# Altium footprint library MC.PcbLib: 22 footprints (part 1 of 2)
Each footprint in its own frame and in the unit in brackets; x right, y up, seen from the top. Pads: shape width x height; smd on the part's side, far side on the other; paste and mask are expansions set on the pad; w line width, h text height; cw(c..) or ccw(c..) is an arc to the next point about the centre after c.
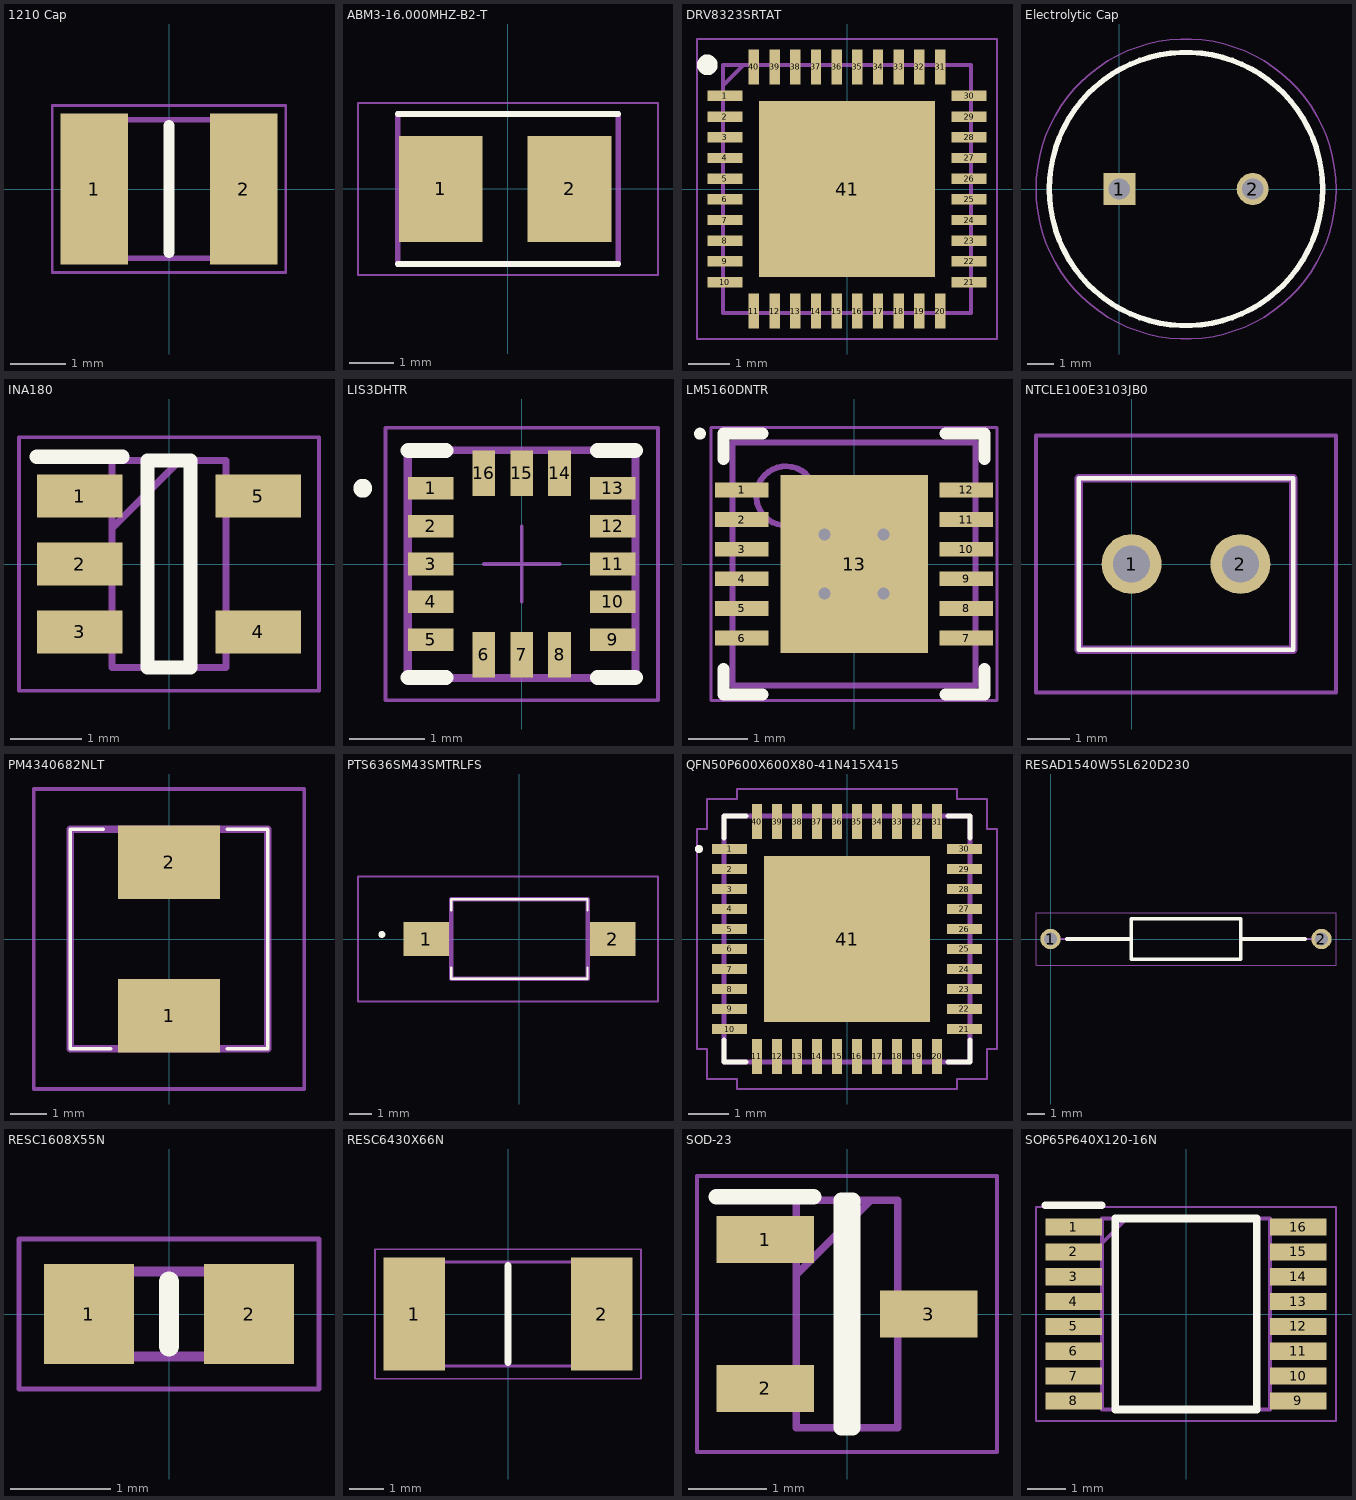
[diagram p0: the footprints below, top view; thin cyan lines are the x and y axes]

## 1210 Cap [mm]
pads (2):
  rect 1.22x2.72 smd: 1(-1.35,0) 2(1.35,0)
Top Overlay:
  lines w0.2: 0,-1.15 0,1.15
Mechanical 13:
  lines w0.1: -1.6,-1.25 -1.6,1.25 1.6,1.25 1.6,-1.25 -1.6,-1.25
Mechanical 15:
  lines w0.05: -2.11,-1.51 -2.11,1.51 2.11,1.51 2.11,-1.51 -2.11,-1.51
3D body "HMK325C7475KN-TE.stp": height 2.1, standoff 0, extent -1.6,-1.25 1.6,1.25

## ABM3-16.000MHZ-B2-T [mm]
pads (2):
  rect 1.9x2.4 smd: 1(-1.524,0) 2(1.397,0)
Top Overlay:
  lines w0.127: -2.5,-1.7 2.5,-1.7 ; -2.5,1.7 2.5,1.7
Mechanical 13:
  lines w0.127: -2.5,-1.7 -2.5,1.7 ; 2.5,-1.7 2.5,1.7
Mechanical 15:
  lines w0.05: -3.4,-1.95 -3.4,1.95 3.4,1.95 3.4,-1.95 -3.4,-1.95
3D body "ABM3-16.000MHZ-B2-T.STEP": height 1.3, standoff 0, extent -2.502,-1.651 2.502,1.651

## DRV8323SRTAT [mm]
pads (41):
  rect 0.85x0.25 smd: 1(-2.95,2.25) 2(-2.95,1.75) 3(-2.95,1.25) 4(-2.95,0.75) 5(-2.95,0.25) 6(-2.95,-0.25) 7(-2.95,-0.75) 8(-2.95,-1.25) 9(-2.95,-1.75) 10(-2.95,-2.25) 21(2.95,-2.25) 22(2.95,-1.75) 23(2.95,-1.25) 24(2.95,-0.75) 25(2.95,-0.25) 26(2.95,0.25) 27(2.95,0.75) 28(2.95,1.25) 29(2.95,1.75) 30(2.95,2.25)
  rect 0.25x0.85 smd: 11(-2.25,-2.95) 12(-1.75,-2.95) 13(-1.25,-2.95) 14(-0.75,-2.95) 15(-0.25,-2.95) 16(0.25,-2.95) 17(0.75,-2.95) 18(1.25,-2.95) 19(1.75,-2.95) 20(2.25,-2.95) 31(2.25,2.95) 32(1.75,2.95) 33(1.25,2.95) 34(0.75,2.95) 35(0.25,2.95) 36(-0.25,2.95) 37(-0.75,2.95) 38(-1.25,2.95) 39(-1.75,2.95) 40(-2.25,2.95)
  rect 4.25x4.25 smd: 41(0,0)
Top Overlay:
  circle w0.25: c-3.375,3 r0.125
Mechanical 13:
  lines w0.1: -3,2.5 -2.5,3 ; -3,-3 -3,3 3,3 3,-3 -3,-3
Mechanical 15:
  lines w0.05: -3.625,-3.625 -3.625,3.625 3.625,3.625 3.625,-3.625 -3.625,-3.625
3D body "DRV8323SRTAT.stp": height 0.8, standoff 0, extent -3.05,-3.05 3.05,3.05

## Electrolytic Cap [mm]
pads (2):
  rect 1.2x1.2 hole 0.8: 1(0,0)
  round 1.2 hole 0.8: 2(5,0)
Top Overlay:
  circle w0.2: c2.5,0 r5.125
Mechanical 13:
  circle w0.1: c2.5,0 r5.125
Mechanical 15:
  circle w0.05: c2.5,0 r5.625
3D body "100ZLH100MEFC10X20.stp": height 22, standoff -10, extent -2.75,-5.247 7.75,5.247

## INA180 [mm]
pads (5):
  rect 1.2x0.6 smd: 1(-1.25,0.95) 2(-1.25,0) 3(-1.25,-0.95) 4(1.25,-0.95) 5(1.25,0.95)
Top Overlay:
  lines w0.2: -1.85,1.5 -0.65,1.5 ; -0.3,-1.45 -0.3,1.45 0.3,1.45 0.3,-1.45 -0.3,-1.45
Mechanical 13:
  lines w0.1: -0.8,0.5 0.15,1.45 ; -0.8,-1.45 -0.8,1.45 0.8,1.45 0.8,-1.45 -0.8,-1.45
Mechanical 15:
  lines w0.05: -2.1,-1.775 -2.1,1.775 2.1,1.775 2.1,-1.775 -2.1,-1.775
3D body "INA180A3IDBVR.stp": height 1.45, standoff 0, extent -1.4,-1.45 1.4,1.45

## LIS3DHTR [mm]
pads (16):
  rect 0.6x0.3 smd: 1(-1.2,1) 2(-1.2,0.5) 3(-1.2,0) 4(-1.2,-0.5) 5(-1.2,-1) 9(1.2,-1) 10(1.2,-0.5) 11(1.2,0) 12(1.2,0.5) 13(1.2,1)
  rect 0.3x0.6 smd: 6(-0.5,-1.2) 7(0,-1.2) 8(0.5,-1.2) 14(0.5,1.2) 15(0,1.2) 16(-0.5,1.2)
Top Overlay:
  lines w0.125: -2.163,1.001 cw(c-2.101,1.001) -2.038,1.001 cw(c-2.101,1.001) -2.163,1.001
  lines w0.2: -1.5,-1.5 -1,-1.5 ; -1.5,1.5 -1,1.5 ; 1,-1.5 1.5,-1.5 ; 1,1.5 1.5,1.5
Mechanical 13:
  lines w0.1: -1.5,-1.5 -1.5,1.5 1.5,1.5 1.5,-1.5 -1.5,-1.5
Mechanical 15:
  lines w0.001: -1.55,-1.55 -1.55,1.55 1.55,1.55 1.55,-1.55 -1.55,-1.55
  lines w0.05: -0.5,0 0.5,0 ; 0,-0.5 0,0.5 ; -1.8,-1.8 -1.8,1.8 1.8,1.8 1.8,-1.8 -1.8,-1.8
3D body "LIS3DHTR.stp": height 1.1, standoff 0, extent -1.5,-1.5 1.5,1.5

## LM5160DNTR [mm] "SON, 12-Leads, Body 4.00x4.00mm, Pitch 0.50mm, Thermal Pad 3.00x2.49mm, IPC Medium Density"
height 1
pads (13):
  rect 0.9x0.25 smd: 1(-1.895,1.25) 2(-1.895,0.75) 3(-1.895,0.25) 4(-1.895,-0.25) 5(-1.895,-0.75) 6(-1.895,-1.25) 7(1.895,-1.25) 8(1.895,-0.75) 9(1.895,-0.25) 10(1.895,0.25) 11(1.895,0.75) 12(1.895,1.25)
  rect 2.49x3 smd paste-1.245: 13(0,0)
via -0.5,-0.5 diameter 0.5 hole 0.2
via -0.5,0.5 diameter 0.5 hole 0.2
via 0.5,0.5 diameter 0.5 hole 0.2
via 0.5,-0.5 diameter 0.5 hole 0.2
Top Overlay:
  circle w0.1: c-2.6,2.2 r0.05
  lines w0.2: -2.2,-1.775 -2.2,-2.2 -1.545,-2.2 ; -2.2,1.775 -2.2,2.2 -1.545,2.2 ; 1.545,-2.2 2.2,-2.2 2.2,-1.775 ; 1.545,2.2 2.2,2.2 2.2,1.775
Top Paste:
  rectangle: -1.15,0.1 -0.1,1.4
  rectangle: -1.15,-1.4 -0.1,-0.1
  rectangle: 0.1,0.1 1.15,1.4
  rectangle: 0.1,-1.4 1.15,-0.1
Mechanical 13:
  circle w0.1: c-1.15,1.15 r0.5
  lines w0.1: -2.05,-2.05 -2.05,2.05 2.05,2.05 2.05,-2.05 -2.05,-2.05
Mechanical 15:
  lines w0.05: -2.413,-2.3 -2.413,2.3 2.413,2.3 2.413,-2.3 -2.413,-2.3
  lines w0.1: -0.5,0 0.5,0 ; 0,-0.5 0,0.5
3D body "LM5160DNTR.step": height 1, standoff 0, extent -2.13,-2.05 2.13,2.05

## NTCLE100E3103JB0 [mil]
pads (2):
  round 55 hole 33.86: 1(0,0) 2(100,0)
Top Overlay:
  lines w3.94: -48.43,-78.74 148.43,-78.74 148.43,78.74 -48.43,78.74 -48.43,-78.74
Mechanical 13:
  lines w7.87: -48.43,-78.74 148.43,-78.74 148.43,78.74 -48.43,78.74 -48.43,-78.74
Mechanical 15:
  lines w3.94: -87.8,-118.11 187.8,-118.11 187.8,118.11 -87.8,118.11 -87.8,-118.11
3D body "NTCLE100E3103JB0.stp": height 397.64, standoff -196.85, extent -48.43,-78.74 148.43,78.74

## PM4340682NLT [mm]
pads (2):
  rect 2.8x2 smd: 1(0,-2.1) 2(0,2.1)
Top Overlay:
  lines w0.1: -1.8,3 -2.7,3 -2.7,-3 -1.6,-3 ; 1.6,-3 2.7,-3 2.7,3 1.6,3
Mechanical 13:
  lines w0.2: -2.7,-3 2.7,-3 2.7,3 -2.7,3 -2.7,-3
Mechanical 15:
  lines w0.1: -3.7,-4.1 3.7,-4.1 3.7,4.1 -3.7,4.1 -3.7,-4.1
3D body "PM4340.682NLT.stp": height 2.1, standoff 0, extent -2.7,-3 2.7,3

## PTS636SM43SMTRLFS [mm]
pads (2):
  rect 2x1.5 smd: 1(-4.1,0) 2(4.1,0)
Top Overlay:
  lines w0.1: -3,-1.75 3,-1.75 ; -3,-1.75 3,-1.75 ; -3,-1.75 -3,-1.25 -3,-1.75 ; -3,1.75 3,1.75 ; -3,1.75 3,1.75 ; -3,1.75 -3,1.25 -3,1.75 ; 3,-1.75 3,-1.25 3,-1.75 ; 3,1.75 3,1.25 3,1.75
  lines w0.2: -6.1,0.2 ccw(c-6.05,0.2) -6,0.2 ; -6.1,0.2 cw(c-6.05,0.2) -6,0.2 ; -6.1,0.2 ccw(c-6.05,0.2) -6,0.2
Mechanical 13:
  lines w0.2: -3,-1.75 -3,1.75 3,1.75 3,-1.75 -3,-1.75
Mechanical 15:
  lines w0.1: -7.1,-2.75 -7.1,2.75 6.1,2.75 6.1,-2.75 -7.1,-2.75

## QFN50P600X600X80-41N415X415 [mm]
pads (41):
  rrect14% 0.88x0.26 smd: 1(-2.935,2.25) 2(-2.935,1.75) 3(-2.935,1.25) 4(-2.935,0.75) 5(-2.935,0.25) 6(-2.935,-0.25) 7(-2.935,-0.75) 8(-2.935,-1.25) 9(-2.935,-1.75) 10(-2.935,-2.25) 21(2.935,-2.25) 22(2.935,-1.75) 23(2.935,-1.25) 24(2.935,-0.75) 25(2.935,-0.25) 26(2.935,0.25) 27(2.935,0.75) 28(2.935,1.25) 29(2.935,1.75) 30(2.935,2.25)
  rrect14% 0.26x0.88 smd: 11(-2.25,-2.935) 12(-1.75,-2.935) 13(-1.25,-2.935) 14(-0.75,-2.935) 15(-0.25,-2.935) 16(0.25,-2.935) 17(0.75,-2.935) 18(1.25,-2.935) 19(1.75,-2.935) 20(2.25,-2.935) 31(2.25,2.935) 32(1.75,2.935) 33(1.25,2.935) 34(0.75,2.935) 35(0.25,2.935) 36(-0.25,2.935) 37(-0.75,2.935) 38(-1.25,2.935) 39(-1.75,2.935) 40(-2.25,2.935)
  rect 4.15x4.15 smd: 41(0,0)
Top Overlay:
  circle w0.1: c-3.7,2.25 r0.05
  lines w0.127: -3.08,-2.526 -3.08,-3.08 -2.526,-3.08 ; -3.08,2.526 -3.08,3.08 -2.526,3.08 ; 2.526,-3.08 3.08,-3.08 3.08,-2.526 ; 2.526,3.08 3.08,3.08 3.08,2.526
Mechanical 13:
  lines w0.127: -3.08,-3.08 -3.08,3.08 3.08,3.08 3.08,-3.08 -3.08,-3.08
Mechanical 15:
  lines w0.05: -3.75,-2.75 -3.75,2.75 -3.5,2.75 -3.5,3.5 -2.75,3.5 -2.75,3.75 2.75,3.75 2.75,3.5 3.5,3.5 3.5,2.75 3.75,2.75 3.75,-2.75 3.5,-2.75 3.5,-3.5 2.75,-3.5 2.75,-3.75 -2.75,-3.75 -2.75,-3.5 -3.5,-3.5 -3.5,-2.75 -3.75,-2.75

## RESAD1540W55L620D230 [mm]
pads (2):
  round 1.15 hole 0.75: 1(0,0) 2(15.4,0)
Top Overlay:
  lines w0.2: 0.925,0 4.6,0 ; 10.8,0 14.475,0 ; 4.6,-1.15 4.6,1.15 10.8,1.15 10.8,-1.15 4.6,-1.15
Mechanical 13:
  lines w0.1: 0,0 4.6,0 ; 10.8,0 15.4,0 ; 4.6,-1.15 4.6,1.15 10.8,1.15 10.8,-1.15 4.6,-1.15
Mechanical 15:
  lines w0.05: -0.825,-1.5 -0.825,1.5 16.225,1.5 16.225,-1.5 -0.825,-1.5
3D body "LR1F2K2.stp": height 2.35, standoff 0.05, extent 2.347,-1.15 13.147,1.15

## RESC1608X55N [mm]
pads (2):
  rect 0.9x1 smd: 1(-0.8,0) 2(0.8,0)
Top Overlay:
  lines w0.2: 0,-0.325 0,0.325
Mechanical 13:
  lines w0.1: -0.8,-0.425 -0.8,0.425 0.8,0.425 0.8,-0.425 -0.8,-0.425
Mechanical 15:
  lines w0.05: -1.5,-0.75 -1.5,0.75 1.5,0.75 1.5,-0.75 -1.5,-0.75
3D body "ERJ-3GEYJ103V.stp": height 0.55, standoff 0, extent -0.8,-0.425 0.8,0.425

## RESC6430X66N [mm]
pads (2):
  rect 1.8x3.3 smd: 1(-2.75,0) 2(2.75,0)
Top Overlay:
  lines w0.2: 0,-1.425 0,1.425
Mechanical 13:
  lines w0.1: -3.175,-1.525 -3.175,1.525 3.175,1.525 3.175,-1.525 -3.175,-1.525
Mechanical 15:
  lines w0.05: -3.9,-1.9 -3.9,1.9 3.9,1.9 3.9,-1.9 -3.9,-1.9
3D body "PCS2512FR0050ET.stp": height 0.66, standoff 0, extent -3.175,-1.525 3.175,1.525

## SOD-23 [mm]
pads (3):
  rect 1.25x0.6 smd: 1(-1.05,0.955) 2(-1.05,-0.955) 3(1.05,0)
Top Overlay:
  lines w0.2: -1.675,1.505 -0.425,1.505 ; -0.075,-1.46 0.075,-1.46 0.075,1.46 -0.075,1.46 -0.075,-1.46
Mechanical 13:
  lines w0.1: -0.65,0.505 0.305,1.46 ; -0.65,-1.46 0.65,-1.46 0.65,1.46 -0.65,1.46 -0.65,-1.46
Mechanical 15:
  lines w0.05: -1.925,-1.77 1.925,-1.77 1.925,1.77 -1.925,1.77 -1.925,-1.77
3D body "MMBZ5242BLT3G.stp": height 1.11, standoff 0, extent -1.185,-1.46 1.185,1.46

## SOP65P640X120-16N [mm]
pads (16):
  rect 1.475x0.45 smd: 1(-2.938,2.275) 2(-2.938,1.625) 3(-2.938,0.975) 4(-2.938,0.325) 5(-2.938,-0.325) 6(-2.938,-0.975) 7(-2.938,-1.625) 8(-2.938,-2.275) 9(2.938,-2.275) 10(2.938,-1.625) 11(2.938,-0.975) 12(2.938,-0.325) 13(2.938,0.325) 14(2.938,0.975) 15(2.938,1.625) 16(2.938,2.275)
Top Overlay:
  lines w0.2: -3.675,2.85 -2.2,2.85 ; -1.85,-2.5 1.85,-2.5 1.85,2.5 -1.85,2.5 -1.85,-2.5
Mechanical 13:
  lines w0.1: -2.2,1.85 -1.55,2.5 ; -2.2,-2.5 2.2,-2.5 2.2,2.5 -2.2,2.5 -2.2,-2.5
Mechanical 15:
  lines w0.05: -3.925,-2.8 3.925,-2.8 3.925,2.8 -3.925,2.8 -3.925,-2.8
3D body "TMUX1208PWR.stp": height 1.2, standoff 0, extent -3.2,-2.5 3.2,2.5